# Altium footprint library MEGA.PcbLib: 237 footprints (part 6 of 15)
Each footprint in its own frame and in the unit in brackets; x right, y up, seen from the top. Pads: shape width x height; smd on the part's side, far side on the other; paste and mask are expansions set on the pad; w line width, h text height; cw(c..) or ccw(c..) is an arc to the next point about the centre after c.
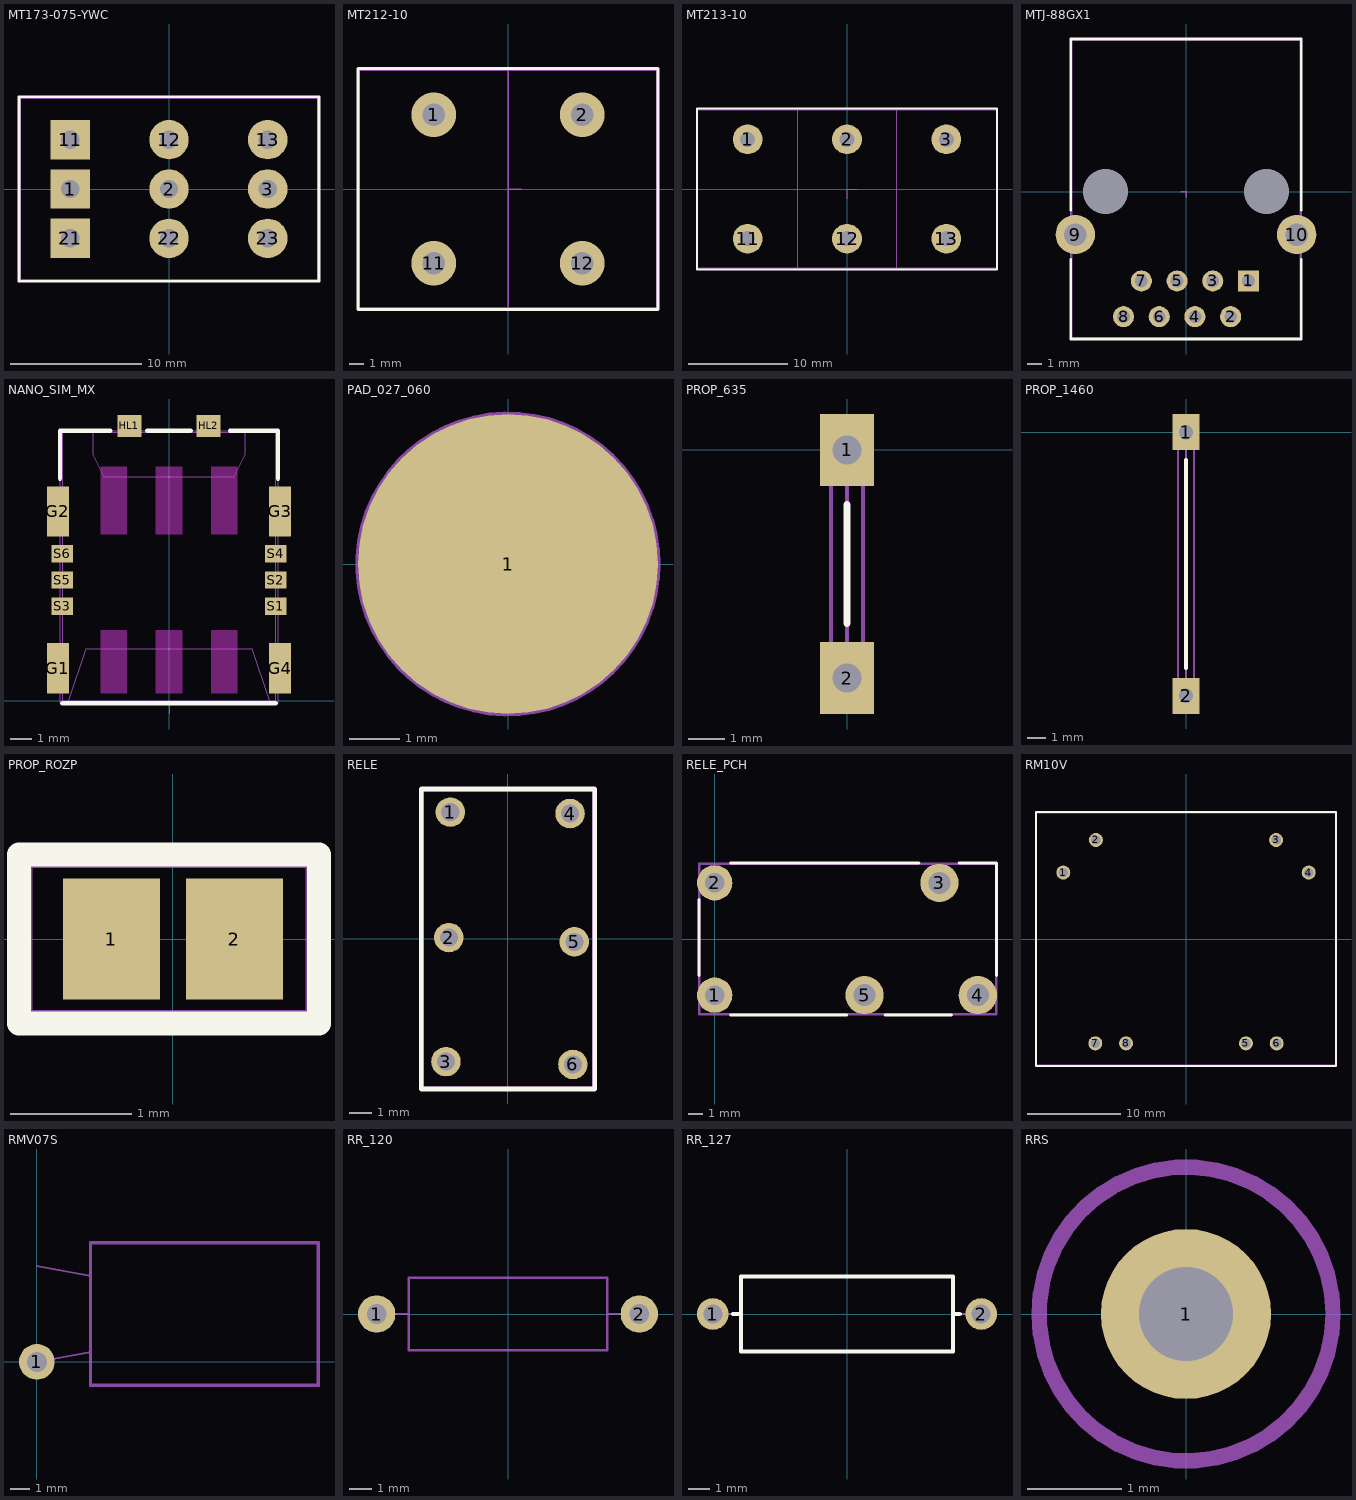
[diagram p5: the footprints below, top view; thin cyan lines are the x and y axes]

## MT173-075-YWC [mm]
height 9.5
pads (9):
  rect 3x3 hole 1.4 mask+0.1: 1(-7.5,0) 11(-7.5,3.75) 21(-7.5,-3.75)
  round 3 hole 1.4 mask+0.05: 2(0,0) 3(7.5,0) 12(0,3.75) 13(7.5,3.75) 22(0,-3.75) 23(7.5,-3.75)
Top Overlay:
  lines w0.2: -11.4,-7 11.4,-7 11.4,7 -11.4,7 -11.4,-7
Mechanical 15:
  lines w0.1: -11.3,-6.9 11.3,-6.9 11.3,6.9 -11.3,6.9 -11.3,-6.9
Mechanical 20:
  lines w0.1: -11.4,-7 11.4,-7 11.4,7 -11.4,7 -11.4,-7

## MT212-10 [mm]
pads (4):
  round 3 hole 1.5 mask+0.05: 1(-5,5) 2(5,5) 11(-5,-5) 12(5,-5)
Top Overlay:
  lines w0.2: -10.1,-8.1 10.1,-8.1 10.1,8.1 -10.1,8.1 -10.1,-8.1
Mechanical 15:
  lines w0.1: 0,-8 0,8 ; -10,-8 -10,8 10,8 10,-8 -10,-8
Multi-Layer:
  text "Value" at -1.235,-2.325 h0.75
Mechanical 19:
  lines w0.1: 0,-1 0,0 0.9,0
Mechanical 20:
  lines w0.1: -10.1,-8.1 10.1,-8.1 10.1,8.1 -10.1,8.1 -10.1,-8.1

## MT213-10 [mm]
pads (6):
  round 3 hole 1.5 mask+0.05: 1(-10,5) 2(0,5) 3(10,5) 11(-10,-5) 12(0,-5) 13(10,-5)
Top Overlay:
  lines w0.2: -15.1,-8.1 15.1,-8.1 15.1,8.1 -15.1,8.1 -15.1,-8.1
Mechanical 15:
  lines w0.1: -5,-8 -5,8 ; 5,-8 5,8 ; -15,-8 -15,8 15,8 15,-8 -15,-8
Multi-Layer:
  text "Value" at -3.735,-1.504 h0.75
Mechanical 19:
  lines w0.1: 0,-1 0,0 1,0
Mechanical 20:
  lines w0.1: -15.1,-8.1 15.1,-8.1 15.1,8.1 -15.1,8.1 -15.1,-8.1

## MTJ-88GX1 [mm]
height 17.27
pads (12):
  rect 1.5x1.5 hole 0.9 mask+0.1: 1(4.445,-6.35)
  round 1.5 hole 0.9 mask+0.1: 2(3.175,-8.89) 3(1.905,-6.35) 4(0.635,-8.89) 5(-0.635,-6.35) 6(-1.905,-8.89) 7(-3.175,-6.35) 8(-4.445,-8.89)
  round 2.8 hole 1.6 mask+0.1: 9(-7.874,-3.048) 10(7.874,-3.048)
  round 0 hole 3.2 unplated: HL1(5.715,0) HL2(-5.715,0)
Top Overlay:
  lines w0.2: -8.191,-4.805 -8.191,-10.477 8.191,-10.477 8.191,-4.805 ; -8.191,-1.305 -8.191,10.858 8.191,10.858 8.191,-1.305
Mechanical 15:
  lines w0.1: -8.128,-10.414 -8.128,10.795 8.128,10.795 8.128,-10.414 -8.128,-10.414
Mechanical 19:
  lines w0.1: -0.381,0 0,0 0,-0.381
Mechanical 20:
  lines w0.1: -8.191,-10.477 8.191,-10.477 8.191,10.858 -8.191,10.858 -8.191,-10.477

## NANO_SIM_MX [mm]
pads (12):
  rect 1x2.3 smd paste-0.175 mask+0.05: G1(-5.1,1.5) G2(-5.1,8.7) G3(5.1,8.7) G4(5.1,1.5)
  rect 1.1x1 smd paste-0.085 mask+0.05: HL1(-1.82,12.62) HL2(1.82,12.62)
  rect 1x0.8 smd paste-0.075 mask+0.05: S1(4.9,4.35) S2(4.9,5.55) S3(-4.9,4.35) S4(4.9,6.75) S5(-4.9,5.55) S6(-4.9,6.75)
L1-Top Layer keep-out:
  region: -1.94,0.35 -3.14,0.35 -3.14,3.25 -1.94,3.25
  region: 0.6,0.35 -0.6,0.35 -0.6,3.25 0.6,3.25
  region: 3.14,0.35 1.94,0.35 1.94,3.25 3.14,3.25
  region: 0.6,7.65 -0.6,7.65 -0.6,10.75 0.6,10.75
  region: 3.14,7.65 1.94,7.65 1.94,10.75 3.14,10.75
  region: -1.94,7.65 -3.14,7.65 -3.14,10.75 -1.94,10.75
Top Overlay:
  lines w0.2: -5,10.2 -5,12.4 -2.7,12.4 ; -4.9,-0.1 4.9,-0.1 ; -1,12.4 1,12.4 ; 2.8,12.4 5,12.4 5,10.2
Mechanical 15:
  lines w0.01: -4.6,0 -3.8,2.4 3.8,2.4 4.6,0 ; -3.5,12.3 -3.5,11.3 -3,10.3 3,10.3 3.5,11.3 3.5,12.3 ; -4.9,0 -4.9,12.3 4.9,12.3 4.9,0 -4.9,0
Multi-Layer:
  text "Value" at -1.23,3.984 h0.75
Mechanical 19:
  lines w0.01: -0.6,0 0,0 0,-0.6
Mechanical 20:
  lines w0.01: -5,-0.1 5,-0.1 5,12.4 -5,12.4 -5,-0.1

## PAD_027_060 [mm]
pads (1):
  round 6 smd mask+0.05: 1(0,0)
Mechanical 15:
  circle w0.1: c0,0 r3
  circle w0.1: c0,0 r1.35

## PROP_635 [mm]
pads (2):
  rect 1.5x2 hole 0.8 mask+0.05: 1(0,0) 2(0,-6.35)
Top Overlay:
  lines w0.2: 0,-4.826 0,-1.524
Mechanical 15:
  lines w0.1: 0,-6.35 0,0
Mechanical 20:
  lines w0.1: -0.445,-6.794 0.445,-6.794 0.445,0.445 -0.445,0.445 -0.445,-6.794

## PROP_1460 [mm]
pads (2):
  rect 1.5x2 hole 0.8 mask+0.05: 1(0,0) 2(0,-14.605)
Top Overlay:
  lines w0.2: 0,-13.081 0,-1.524
Mechanical 15:
  lines w0.1: 0,-14.605 0,0
Mechanical 20:
  lines w0.1: -0.445,-15.05 0.445,-15.05 0.445,0.445 -0.445,0.445 -0.445,-15.05

## PROP_ROZP [mm]
pads (2):
  rect 0.8x1 smd mask+0.05: 1(-0.508,0) 2(0.508,0)
Top Overlay:
  lines w0.2: -1.27,-0.699 1.206,-0.699 1.206,0.699 -1.27,0.699 -1.27,-0.699
Mechanical 15:
  lines w0.1: -1.206,-0.635 1.143,-0.635 1.143,0.635 -1.206,0.635 -1.206,-0.635
Mechanical 20:
  lines w0.1: -1.27,-0.699 1.206,-0.699 1.206,0.699 -1.27,0.699 -1.27,-0.699

## RELE [mm]
pads (6):
  round 1.3 hole 0.8 mask+0.1: 1(-2.54,5.588) 2(-2.603,0.064) 3(-2.73,-5.397) 4(2.73,5.524) 5(2.921,-0.127) 6(2.857,-5.524)
Top Overlay:
  lines w0.2: -3.81,-6.604 3.81,-6.604 3.81,6.604 -3.81,6.604 -3.81,-6.604
Mechanical 15:
  lines w0.1: -3.746,-6.54 3.746,-6.54 3.746,6.54 -3.746,6.54 -3.746,-6.54
Multi-Layer:
  text "Value" at 1.529,-5.184 h0.75

## RELE_PCH [mm]
pads (5):
  round 2.4 hole 1.3 mask+0.05: 1(0,-3.81) 2(0,3.81)
  round 2.6 hole 1.5 mask+0.05: 3(15.24,3.81) 4(17.843,-3.81) 5(10.16,-3.81)
Top Overlay:
  lines w0.2: -1.079,-2.476 -1.079,2.667 ; 1.079,-5.143 8.954,-5.143 ; 1.079,5.143 13.843,5.143 ; 11.557,-5.143 16.066,-5.143 ; 16.573,5.143 19.113,5.143 19.113,-2.476
Mechanical 15:
  lines w0.1: -1.016,-5.08 19.05,-5.08 19.05,5.08 -1.016,5.08 -1.016,-5.08
Multi-Layer:
  text "Value" at 5.733,-1.34 h0.75
Mechanical 20:
  lines w0.1: -1.079,-5.143 19.113,-5.143 19.113,5.143 -1.079,5.143 -1.079,-5.143

## RM10V [mm]
pads (8):
  round 1.5 hole 1 mask+0.05: 1(-13.144,7.112) 2(-9.652,10.604) 3(9.652,10.604) 4(13.144,7.112) 5(6.413,-11.176) 6(9.716,-11.176) 7(-9.716,-11.176) 8(-6.413,-11.176)
Top Overlay:
  lines w0.2: -16.066,-13.589 16.066,-13.589 16.066,13.589 -16.066,13.589 -16.066,-13.589
Mechanical 15:
  lines w0.01: -16.002,-13.525 16.002,-13.525 16.002,13.525 -16.002,13.525 -16.002,-13.525
Mechanical 20:
  lines w0.01: -16.066,-13.589 16.066,-13.589 16.066,13.589 -16.066,13.589 -16.066,-13.589

## RMV07S [mm]
pads (1):
  round 1.8 hole 1 mask+0.05: 1(0,0)
Mechanical 15:
  lines w0.1: 0,0 2.73,0.508 ; 0,4.826 2.73,4.318 ; 2.73,-1.143 14.16,-1.143 14.16,5.969 2.73,5.969 2.73,-1.143
Mechanical 20:
  lines w0.1: 2.667,-1.206 14.224,-1.206 14.224,6.032 2.667,6.032 2.667,-1.206

## RR_120 [mm]
pads (2):
  round 1.7 hole 0.9 mask+0.1: 1(-5.969,0) 2(5.969,0)
Mechanical 15:
  lines w0.1: -5.969,0 -4.508,0 ; 4.508,0 5.969,0 ; -4.508,-1.651 4.508,-1.651 4.508,1.651 -4.508,1.651 -4.508,-1.651

## RR_127 [mm]
pads (2):
  round 1.5 hole 0.9 mask+0.1: 1(-6.35,0) 2(6.35,0)
Top Overlay:
  lines w0.2: -5.397,0 -5.016,0 ; 5.016,0 5.334,0 ; -5.016,-1.778 5.016,-1.778 5.016,1.778 -5.016,1.778 -5.016,-1.778
Mechanical 15:
  lines w0.1: -6.35,0 -5,0 ; 5,0 6.35,0 ; -5,-1.75 5,-1.75 5,1.75 -5,1.75 -5,-1.75
Mechanical 20:
  lines w0.1: -5.016,-1.778 5.016,-1.778 5.016,1.778 -5.016,1.778 -5.016,-1.778

## RRS [mm]
pads (1):
  round 1.8 hole 1 mask+0.05: 1(0,0)
Mechanical 15:
  circle w0.1: c0,0 r1.524
Mechanical 20:
  circle w0.1: c0,0 r1.587